# Altium footprint library PcbLib1.PcbLib: 18 footprints (part 1 of 2)
Each footprint in its own frame and in the unit in brackets; x right, y up, seen from the top. Pads: shape width x height; smd on the part's side, far side on the other; paste and mask are expansions set on the pad; w line width, h text height; cw(c..) or ccw(c..) is an arc to the next point about the centre after c.
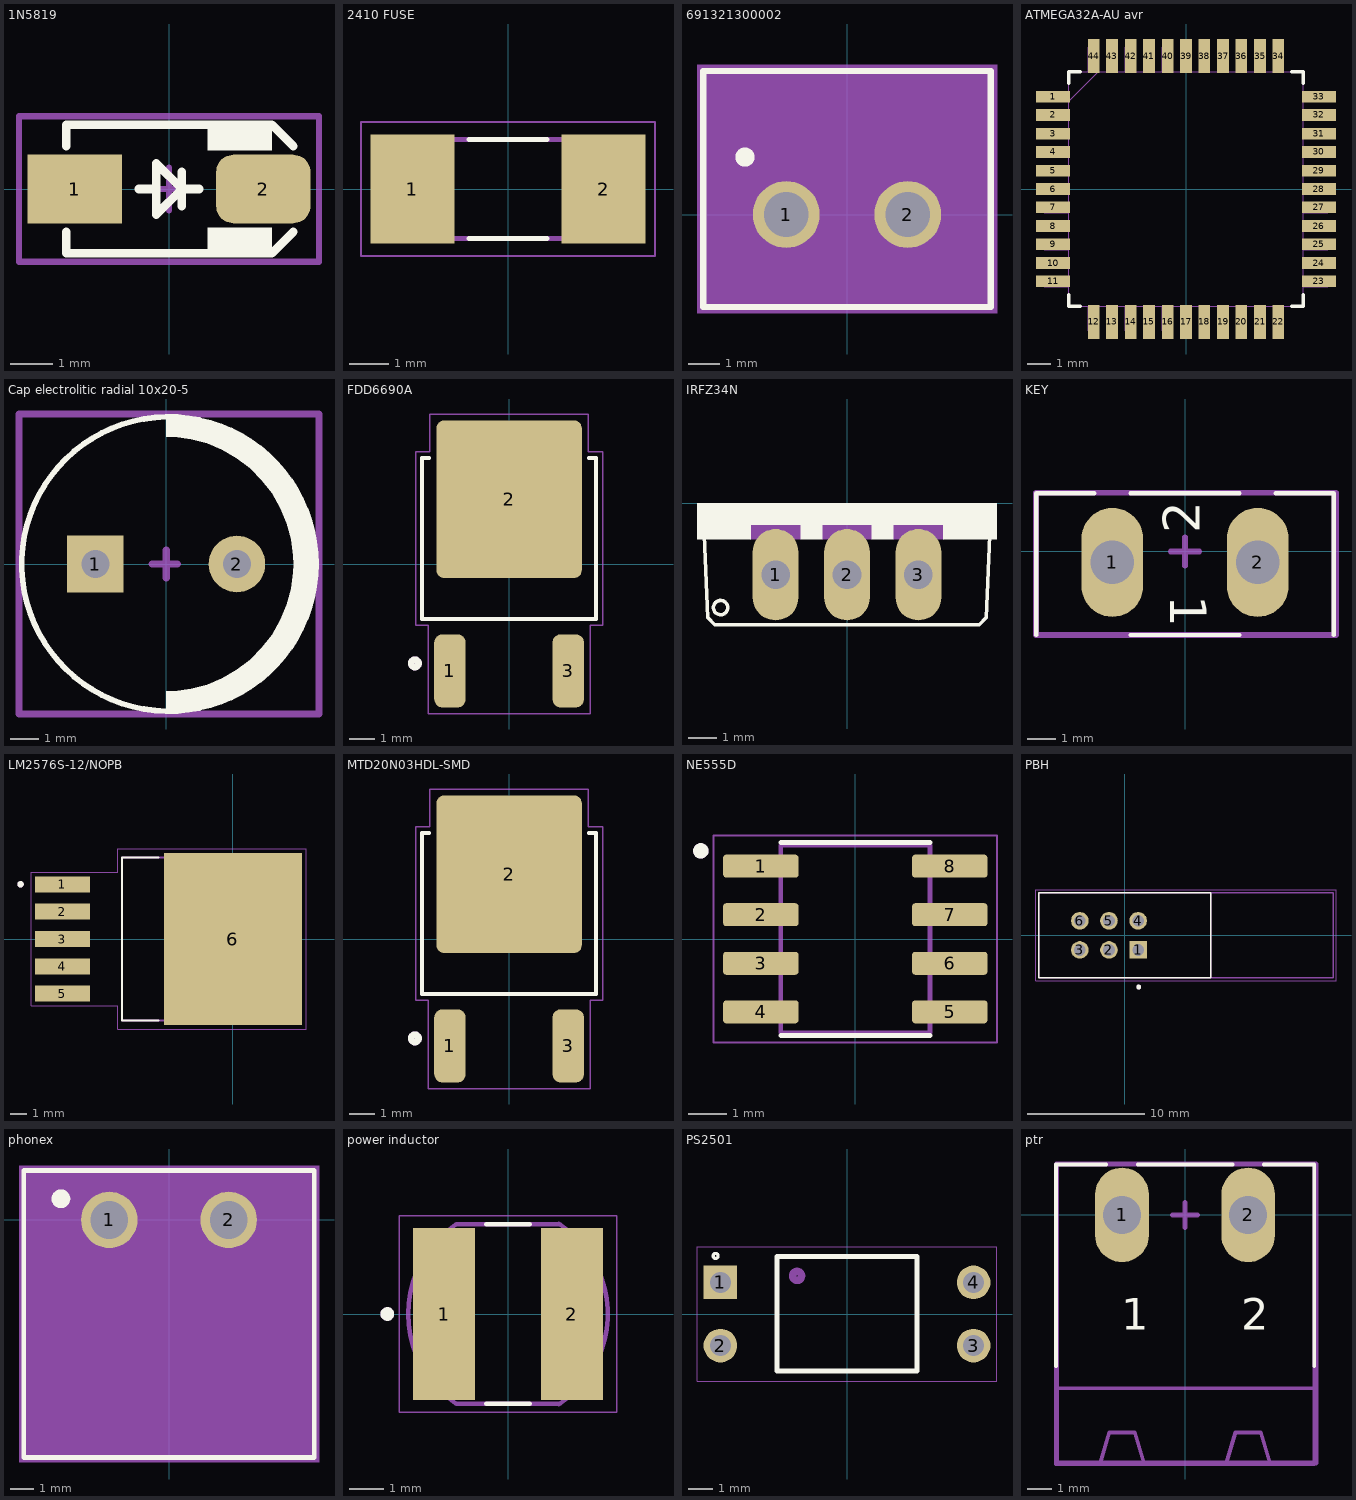
[diagram p0: the footprints below, top view; thin cyan lines are the x and y axes]

## 1N5819 [mm] "DP?"
pads (2):
  rect 2.2x1.6 smd: 1(-2.2,0)
  rrect50% 2.2x1.6 smd: 2(2.2,0)
Top Overlay:
  rectangle: 0.901,0.9 2.401,1.5
  rectangle: 0.9,-1.499 2.4,-0.899
  lines w0.2: -2.4,-1 -2.4,-1.5 2.4,-1.5 2.9,-1 ; -2.4,1 -2.4,1.5 2.4,1.5 2.9,1 ; -0.7,0 -0.3,0 ; 0.3,-0.4 0.3,0.4 ; 0.7,0 0.3,0 ; 0.3,0 -0.3,-0.6 -0.3,0.6 0.3,0
Mechanical 15:
  lines w0.15: -0.5,0 0.5,0 ; 0,-0.5 0,0.5 ; -3.5,-1.7 -3.5,1.7 3.5,1.7 3.5,-1.7 -3.5,-1.7
3D body "User Library-DIOM5528X26.step": height 2.6, standoff 0.03, extent -2.75,-1.4 2.75,1.4

## 2410 FUSE [mm] "F?"
pads (2):
  rect 2.15x2.8 smd: 1(-2.455,0) 2(2.455,0)
Top Overlay:
  lines w0.127: -1,-1.27 1,-1.27 ; -1,1.27 1,1.27
Mechanical 13:
  lines w0.127: -3.05,-1.27 3.05,-1.27 3.05,1.27 -3.05,1.27 -3.05,-1.27
Mechanical 15:
  lines w0.05: -3.78,-1.72 -3.78,1.72 3.78,1.72 3.78,-1.72 -3.78,-1.72
3D body "0679L4000-05.STEP": height 2.55, standoff 0.01, extent -3.05,-1.27 3.05,1.52

## 691321300002 [mm]
pads (2):
  round 2.1 hole 1.4: 1(-1.905,0) 2(1.905,0)
Top Overlay:
  circle w0.4: c-3.2,1.8 r0.1
  lines w0.2: -4.505,-2.9 -4.505,4.5 4.505,4.5 4.505,-2.9 -4.505,-2.9
Mechanical 13:
  lines w0.1: -4.405,-2.8 4.405,-2.8 4.405,4.4 -4.405,4.4 -4.405,-2.8
Mechanical 15:
  region: 4.705,-3.1 -4.705,-3.1 -4.705,4.7 4.705,4.7
3D body "691321300002.stp": height 9.21, standoff -3.49, extent -4.405,-2.865 4.405,4.335

## ATMEGA32A-AU avr [mil] "U"
pads (44):
  rect 58x20 smd: 1(-226,157) 2(-226,126) 3(-226,94) 4(-226,63) 5(-226,31) 6(-226,0) 7(-226,-31) 8(-226,-63) 9(-226,-94) 10(-226,-126) 11(-226,-157) 23(226,-157) 24(226,-126) 25(226,-94) 26(226,-63) 27(226,-31) 28(226,0) 29(226,31) 30(226,63) 31(226,94) 32(226,126) 33(226,157)
  rect 20x58 smd: 12(-157,-226) 13(-126,-226) 14(-94,-226) 15(-63,-226) 16(-31,-226) 17(0,-226) 18(31,-226) 19(63,-226) 20(94,-226) 21(126,-226) 22(157,-226) 34(157,226) 35(126,226) 36(94,226) 37(63,226) 38(31,226) 39(0,226) 40(-31,226) 41(-63,226) 42(-94,226) 43(-126,226) 44(-157,226)
Top Overlay:
  lines w6: -199,-180 -199,-199 -180,-199 ; -199,180 -199,199 -180,199 ; 180,-199 199,-199 199,-180 ; 180,199 199,199 199,180
Mechanical 13:
  drawing of 181 lines, arcs and shapes, not listed
3D body "ATMEGA32A-AU.STEP": height 47.29, standoff 0.05, extent -236.22,-236.22 236.22,236.22

## Cap electrolitic radial 10x20-5 [mm] "Cap electrolitic radial 10x20-5-Design:Abbas Basereh"
height 20
pads (2):
  rect 2x2 hole 1: 1(-2.5,0)
  round 2 hole 1: 2(2.5,0)
Top Overlay:
  circle w0.2: c0.096,0 r5.2
  region: 0,5.2 0.096,5.2 0.437,5.2 1.113,5.111 1.771,4.935 2.401,4.674 2.991,4.333 3.532,3.918 4.014,3.436 4.429,2.895 4.77,2.305 5.031,1.675 5.207,1.017 5.296,0.341 5.296,0 5.296,-0.341 5.207,-1.017 5.031,-1.675 4.77,-2.305 4.429,-2.895 4.014,-3.436 3.532,-3.918 2.991,-4.333 2.401,-4.674 1.771,-4.935 1.113,-5.111 0.437,-5.2 0.096,-5.2 0,-5.2 0,-4.5 0.294,-4.49 0.878,-4.414 1.446,-4.261 1.99,-4.036 2.5,-3.742 2.967,-3.383 3.383,-2.967 3.742,-2.5 4.036,-1.99 4.261,-1.446 4.414,-0.878 4.49,-0.294 4.5,0 4.49,0.294 4.414,0.878 4.261,1.446 4.036,1.99 3.742,2.5 3.383,2.967 2.967,3.383 2.5,3.742 1.99,4.036 1.446,4.261 0.878,4.414 0.294,4.49 0,4.5
Mechanical 15:
  lines w0.254: -0.5,0 0.4,0 ; 0,-0.5 0,0.5 ; -5.2,-5.3 5.4,-5.3 5.4,5.3 -5.2,5.3 -5.2,-5.3
3D body "User Library-Cap-EL(10x20-5).STEP": height 20, standoff -3.3, extent -5,-5 5.002,5

## FDD6690A [mm] "Q?"
pads (3):
  rrect50% 1.22x2.83 smd: 1(-2.29,-4.14) 3(2.29,-4.14)
  rrect10% 5.63x6.1 smd paste-4: 2(0,2.51)
Top Overlay:
  circle w0.254: c-3.65,-3.85 r0.141
  lines w0.152: -3.1,4.098 -3.37,4.098 -3.37,-2.123 3.37,-2.123 3.37,4.098 3.1,4.098
Top Paste:
  region: 0.73,1.858 -0.731,1.858 -0.731,3.165 0.73,3.165
  region: 0.73,3.887 -0.73,3.887 -0.73,5.195 0.73,5.195
  region: 0.73,3.892 -0.731,3.892 -0.731,5.195 0.73,5.195
  region: 0.73,-0.175 -0.731,-0.175 -0.731,1.135 0.73,1.135
  region: 2.61,3.887 1.151,3.887 1.151,5.195 2.61,5.195
  region: 2.61,1.855 1.15,1.855 1.15,3.165 2.61,3.165
  region: 2.61,-0.175 1.151,-0.175 1.151,1.135 2.61,1.135
  region: -1.15,-0.175 -2.615,-0.175 -2.615,1.135 -1.15,1.135
  region: -1.15,1.856 -2.611,1.856 -2.611,3.165 -1.15,3.165
  region: -1.15,3.893 -2.615,3.893 -2.615,5.195 -1.15,5.195
Mechanical 13:
  circle w0.254: c-3.65,-3.85 r0.141
  lines w0.152: -3.1,4.098 -3.37,4.098 -3.37,-2.123 3.37,-2.123 3.37,4.098 3.1,4.098
Mechanical 15:
  lines w0.05: -3.62,-2.38 -3.14,-2.38 -3.14,-5.81 3.14,-5.81 3.14,-2.38 3.62,-2.38 3.62,4.35 3.07,4.35 3.07,5.81 -3.07,5.81 -3.07,4.35 -3.62,4.35 -3.62,-2.38
3D body "FDD6690A.STEP": height 2.53, standoff 0.01, extent -3.27,-3.812 3.27,6.093

## IRFZ34N [mil] "Q?"
pads (3):
  oval 64x128 hole 40: 1(-100,-100) 2(0,-100) 3(100,-100)
Top Overlay:
  circle w5: c-177,-146 r10
  region: 210,-50 135,-50 135,-30 210,-30
  region: 65,-50 35,-50 35,-30 65,-30
  region: -35,-50 -65,-50 -65,-30 -35,-30
  region: -135,-50 -210,-50 -210,-30 -135,-30
  region: 210,-30 -210,-30 -210,0 210,0
  lines w5: -200,-45 -195,-160 -185,-170 185,-170 195,-160 200,-45
Mechanical 13:
  region: 135,-50 65,-50 65,-30 135,-30
  region: 35,-50 -35,-50 -35,-30 35,-30
  region: -65,-50 -135,-50 -135,-30 -65,-30
  text "3" at 75,-125 h50
  text "2" at -25,-125 h50
  text "1" at -125,-125 h50
3D body "IRFZ34N.STEP": height 760.5, standoff -394.5, extent -205,-175 205,0

## KEY [mil] "K?"
pads (2):
  oval 85x150 hole 60: 1(-100,-15) 2(100,-15)
Top Overlay:
  lines w6: -204.72,-115 -204.72,80 -125,80 ; -75,-115 75,-115 ; -75,80 75,80 ; 125,80 204.72,80 204.72,-115
  text "1" at -20,-60 h50
  text "2" at 20,25 h50
Mechanical 13:
  lines w6: -125,80 -204.72,80 -204.72,-115.28 204.72,-115.28 204.72,80 125,80 ; -75,80 75,80
Mechanical 15:
  lines w7.87: -19.68,0 19.68,0 ; 0,-19.68 0,19.68 ; -205,-115 207.68,-115 207.68,80.71 -205,80.71 -205,-115

## LM2576S-12/NOPB [mm] "U?"
pads (6):
  rect 3.4x1 smd paste-0.05 mask+0.07: 1(-10.6,3.4) 2(-10.6,1.7) 3(-10.6,0) 4(-10.6,-1.7) 5(-10.6,-3.4)
  rect 8.6x10.7 smd paste-0.05 mask+0.07: 6(0,0)
Top Overlay:
  circle w0.2: c-13.2,3.4 r0.1
  lines w0.127: -4.62,-5.08 -6.905,-5.08 -6.905,5.08 -4.62,5.08
Mechanical 13:
  circle w0.2: c-13.2,3.4 r0.1
  lines w0.127: -6.905,-5.08 -6.905,5.08 2.02,5.08 2.02,-5.08 -6.905,-5.08
Mechanical 15:
  lines w0.05: -12.55,-4.15 -7.155,-4.15 -7.155,-5.6 4.55,-5.6 4.55,5.6 -7.155,5.6 -7.155,4.15 -12.55,4.15 -12.55,-4.15
3D body "LM2576S-12.STEP": height 4.66, standoff -0.14, extent -11.112,-5.08 3.238,5.08

## MTD20N03HDL-SMD [mm] "Q?"
pads (3):
  rrect50% 1.22x2.83 smd: 1(-2.29,-4.14) 3(2.29,-4.14)
  rrect10% 5.63x6.1 smd paste-4: 2(0,2.51)
Top Overlay:
  circle w0.254: c-3.65,-3.85 r0.141
  lines w0.152: -3.1,4.098 -3.37,4.098 -3.37,-2.123 3.37,-2.123 3.37,4.098 3.1,4.098
Top Paste:
  region: -1.15,3.893 -2.615,3.893 -2.615,5.195 -1.15,5.195
  region: -1.15,1.856 -2.611,1.856 -2.611,3.165 -1.15,3.165
  region: -1.15,-0.175 -2.615,-0.175 -2.615,1.135 -1.15,1.135
  region: 2.61,-0.175 1.151,-0.175 1.151,1.135 2.61,1.135
  region: 2.61,1.855 1.15,1.855 1.15,3.165 2.61,3.165
  region: 2.61,3.887 1.151,3.887 1.151,5.195 2.61,5.195
  region: 0.73,-0.175 -0.731,-0.175 -0.731,1.135 0.73,1.135
  region: 0.73,3.892 -0.731,3.892 -0.731,5.195 0.73,5.195
  region: 0.73,3.887 -0.73,3.887 -0.73,5.195 0.73,5.195
  region: 0.73,1.858 -0.731,1.858 -0.731,3.165 0.73,3.165
Mechanical 13:
  circle w0.254: c-3.65,-3.85 r0.141
  lines w0.152: -3.1,4.098 -3.37,4.098 -3.37,-2.123 3.37,-2.123 3.37,4.098 3.1,4.098
Mechanical 15:
  lines w0.05: -3.62,-2.38 -3.62,4.35 -3.07,4.35 -3.07,5.81 3.07,5.81 3.07,4.35 3.62,4.35 3.62,-2.38 3.14,-2.38 3.14,-5.81 -3.14,-5.81 -3.14,-2.38 -3.62,-2.38
3D body "FDD6690A.STEP": height 2.53, standoff 0.01, extent -3.27,-3.812 3.27,6.093

## NE555D [mm] "U?"
pads (8):
  rrect25% 1.97x0.6 smd: 1(-2.47,1.905) 2(-2.47,0.635) 3(-2.47,-0.635) 4(-2.47,-1.905) 5(2.47,-1.905) 6(2.47,-0.635) 7(2.47,0.635) 8(2.47,1.905)
Top Overlay:
  circle w0.2: c-4.04,2.305 r0.1
  lines w0.127: -1.95,-2.525 1.95,-2.525 ; -1.95,2.525 1.95,2.525
Mechanical 13:
  circle w0.2: c-4.04,2.305 r0.1
  lines w0.127: -1.95,-2.452 -1.95,2.452 1.95,2.452 1.95,-2.452 -1.95,-2.452
Mechanical 15:
  lines w0.05: -3.705,-2.702 -3.705,2.702 3.705,2.702 3.705,-2.702 -3.705,-2.702
3D body "NE555D.STEP": height 1.74, standoff -0.01, extent -2.997,-2.451 2.997,2.451

## PBH [mm] "S?"
height 9.1
pads (6):
  rect 1.508x1.508 / inner round 1.508 / far side rect 1.508x1.508 hole 1: 1(1.15,-1.25)
  round 1.508 hole 1: 2(-1.35,-1.25) 3(-3.85,-1.25) 4(1.15,1.25) 5(-1.35,1.25) 6(-3.85,1.25)
Top Overlay:
  circle w0.2: c1.201,-4.425 r0.1
  lines w0.127: -7.35,-3.65 7.35,-3.65 7.35,3.65 -7.35,3.65 -7.35,-3.65
Mechanical 13:
  circle w0.2: c1.201,-4.425 r0.1
  lines w0.127: 7.35,-3.65 7.35,3.65 ; 7.35,-3.65 17.85,-3.65 17.85,3.65 7.35,3.65 ; 7.35,-3.65 -7.35,-3.65 -7.35,3.65 7.35,3.65
Mechanical 15:
  lines w0.05: -7.6,-3.9 18.1,-3.9 18.1,3.9 -7.6,3.9 -7.6,-3.9
3D body "step_temp.STEP": height 9.15, standoff -4, extent -7.35,-3.65 17.85,3.65

## phonex [mm] "J?"
pads (2):
  round 2.4 hole 1.6: 1(-2.54,0) 2(2.54,0)
Top Overlay:
  circle w0.4: c-4.6,0.9 r0.2
  lines w0.2: -6.18,-10.1 6.18,-10.1 6.18,2.1 -6.18,2.1 -6.18,-10.1
Mechanical 13:
  lines w0.1: -6.08,-10 -6.08,2 6.08,2 6.08,-10 -6.08,-10
Mechanical 15:
  region: 6.38,-10.3 -6.38,-10.3 -6.38,2.3 6.38,2.3
3D body "691313510002.stp": height 8.51, standoff -3.49, extent -5.953,-10.191 6.207,1.809

## power inductor [mm]
pads (2):
  rect 1.8x5 smd: 1(-1.85,0) 2(1.85,0)
Top Overlay:
  circle w0.2: c-3.5,0 r0.1
  lines w0.127: -0.63,-2.6 0.63,-2.6 ; -0.63,2.6 0.63,2.6
Mechanical 13:
  circle w0.2: c-3.5,0 r0.1
  lines w0.127: -1.523,-2.585 cw(c0.221,0) -1.523,2.585 ; -1.5,-2.6 1.5,-2.6 ; -1.5,2.6 1.5,2.6 ; 1.477,-2.615 ccw(c-0.221,0) 1.477,2.615
Mechanical 15:
  lines w0.05: -3.15,-2.85 -3.15,2.85 3.15,2.85 3.15,-2.85 -3.15,-2.85
3D body "step_temp.STEP": height 4.85, standoff 0, extent -2.897,-2.6 2.897,2.6

## PS2501 [mm] "U?"
pads (4):
  rect 1.35x1.35 hole 0.85: 1(-5.08,1.27)
  round 1.35 hole 0.85: 2(-5.08,-1.27) 3(5.08,-1.27) 4(5.08,1.27)
Top Overlay:
  circle w0.127: c-5.273,2.33 r0.1
  lines w0.2: -2.8,2.29 -2.8,-2.29 2.8,-2.29 2.8,2.29 ; -2.8,2.3 2.8,2.3
Mechanical 13:
  circle w0.3: c-2.003,1.53 r0.18
Mechanical 15:
  lines w0.05: -6.02,-2.7 -6.02,2.7 6.02,2.7 6.02,-2.7 -6.02,-2.7
3D body "VO617A-9X016.STEP": height 4.95, standoff -2.56, extent -5.211,-2.29 5.211,2.29

## ptr [mil] "T?"
pads (2):
  oval 85x150 hole 60: 1(-100,0) 2(100,0)
Top Overlay:
  lines w6: -204.72,-239.72 -204.72,80 -125,80 ; -75,80 75,80 ; 125,80 204.72,80 204.72,-239.72
  text "2" at 88.74,-182.48 h50
  text "1" at -101.26,-182.48 h50
Mechanical 13:
  lines w6: -204.72,-275 204.72,-275 ; -125,80 -204.72,80 -204.72,-239.72 -204.72,-395 -135,-395 ; -75,80 75,80 ; 125,80 204.72,80 204.72,-239.72 204.72,-395 135,-395 ; -135,-395 -65,-395 ; -135,-395 -120,-345 -80,-345 -65,-395 ; -65,-395 65,-395 ; 65,-395 135,-395 ; 65,-395 80,-345 120,-345 135,-395
Mechanical 15:
  lines w7.87: -19.68,0 19.68,0 ; 0,-19.68 0,19.68 ; -203.74,-393.7 -203.74,80.71 207.68,80.71 207.68,-393.7 -203.74,-393.7
3D body "User Library-MSTB 2,5-2-G-5,08 1770711.STEP": height 339.58, standoff -136.8, extent -199.21,-393.75 200.79,78.79